# Altium footprint library LPON_OTHER.PcbLib: 107 footprints (part 1 of 7)
Each footprint in its own frame and in the unit in brackets; x right, y up, seen from the top. Pads: shape width x height; smd on the part's side, far side on the other; paste and mask are expansions set on the pad; w line width, h text height; cw(c..) or ccw(c..) is an arc to the next point about the centre after c.
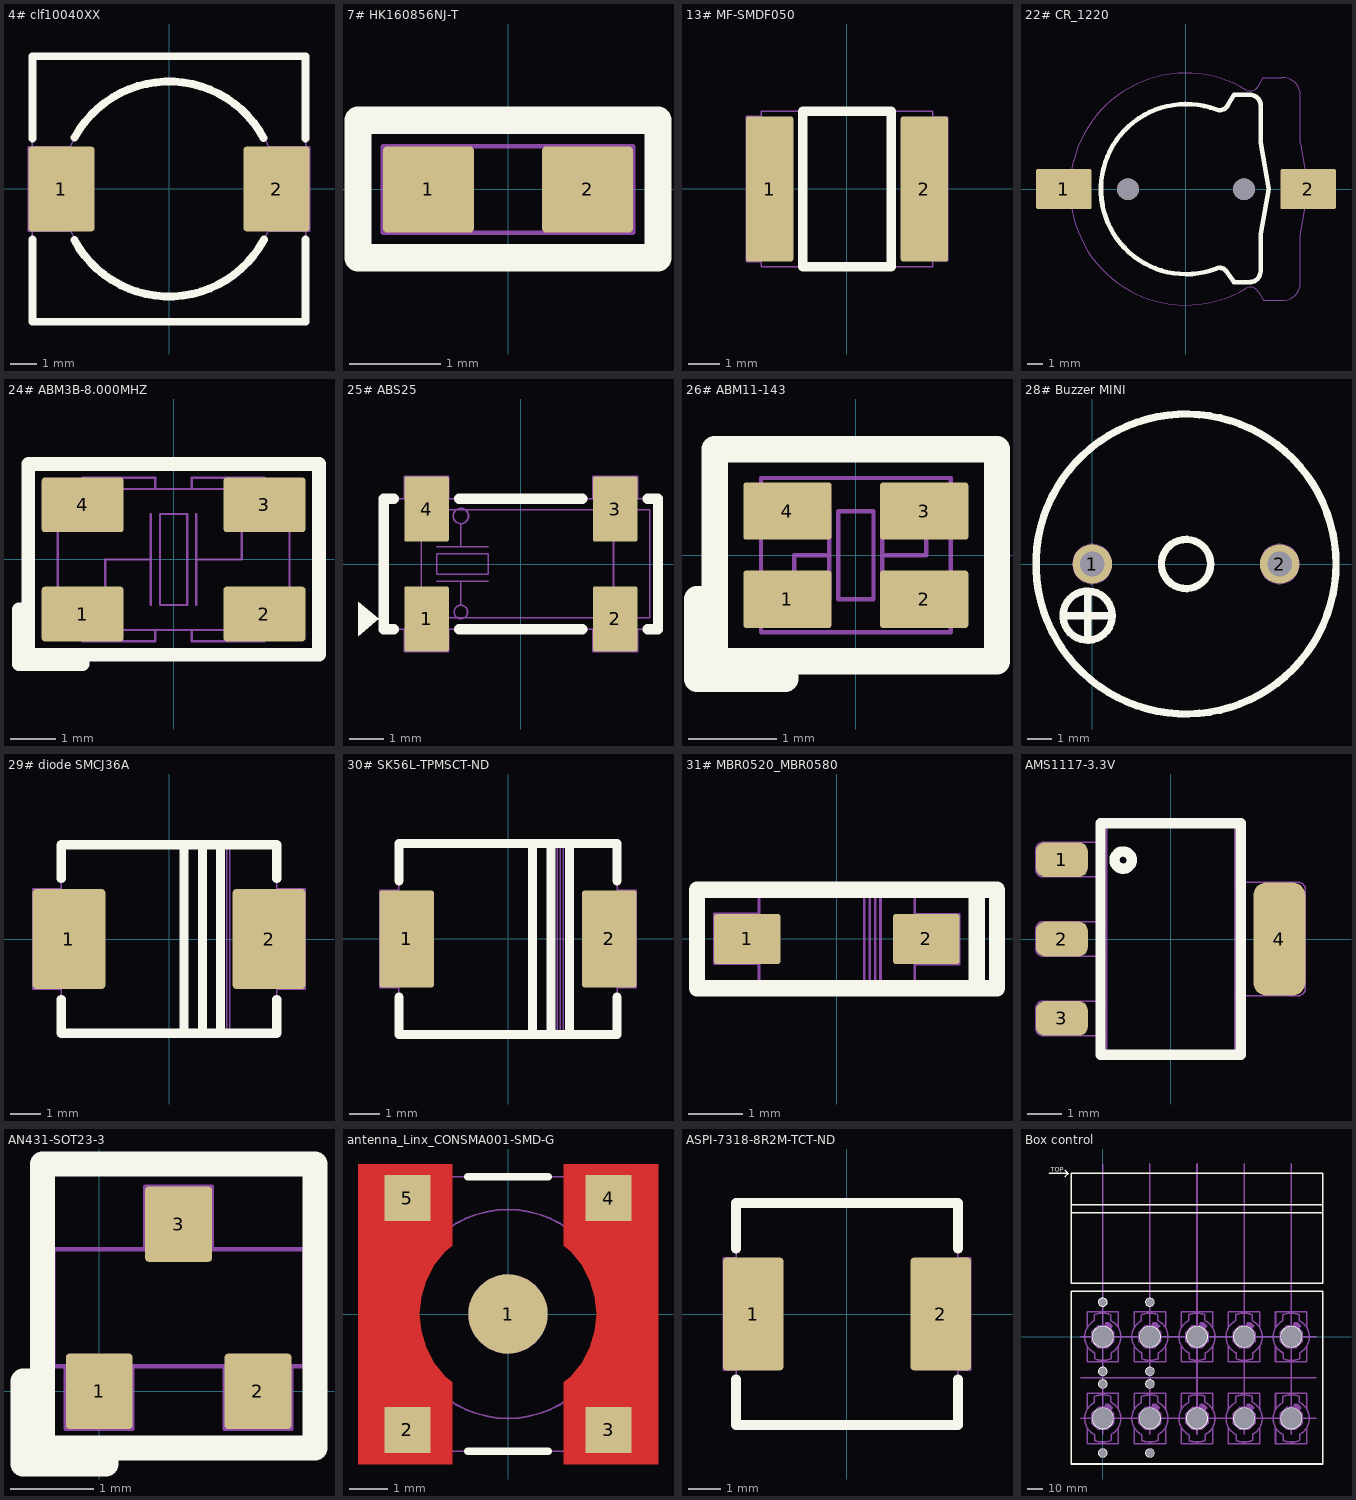
[diagram p0: the footprints below, top view; thin cyan lines are the x and y axes]

## 4# clf10040XX [mm] "Precision Wire Wound Inductor, 2-Leads, Body 10.00x9.70mm, IPC Medium Density"
height 4.1
pads (2):
  rrect10% 2.5x3.2 smd mask+0.1: 1(-4.05,0) 2(4.05,0)
Top Overlay:
  lines w0.3: -5.15,-1.9 -5.15,-5 5.15,-5 5.15,-1.9 ; -5.15,1.9 -5.15,5 5.15,5 5.15,1.9 ; -3.567,-1.917 ccw(c0,0) 3.571,-1.911 ; -3.552,1.946 cw(c0,0) 3.566,1.92
Mechanical 2:
  lines w0.05: -5.15,-1.6 -5.15,-5 5.15,-5 5.15,-1.6 ; -5.15,1.6 -5.15,5 5.15,5 5.15,1.6 ; -3.72,1.6 -5.3,1.6 -5.3,-1.6 -3.717,-1.6 ; 3.717,-1.6 5.3,-1.6 5.3,1.6 3.72,1.6 ; -3.697,-1.577 cw(c0.02,0.03) 3.737,-1.577 cw(c0.02,0.03) -3.697,-1.577
3D body "clf10040.step": height 4.1, standoff -0.1, extent -5,-4.85 5.2,4.85

## 7# HK160856NJ-T [mm] "Chip Inductor, 2-Leads, Body 1.60x0.80mm, IPC Medium Density"
height 0.95
pads (2):
  rrect10% 1x0.95 smd: 1(-0.875,0) 2(0.875,0)
Top Overlay:
  lines w0.3: -1.65,-0.75 1.65,-0.75 1.65,0.76 -1.65,0.76 -1.65,-0.75
Mechanical 2:
  lines w0.05: -0.875,-0.475 -0.875,0.475 ; -0.875,-0.475 -1.375,-0.475 -1.375,0.475 -0.875,0.475 ; -0.875,-0.475 0.875,-0.475 ; -0.875,0.475 0.875,0.475 ; 0.875,-0.475 0.875,0.475 ; 0.875,-0.475 1.375,-0.475 1.375,0.475 0.875,0.475
3D body "HK160856NJ-T.step": height 0.95, standoff 0, extent -0.935,-0.475 0.815,0.475

## 13# MF-SMDF050 [mm] "style1"
height 1.09
pads (2):
  rrect10% 1.5x4.6 smd mask+0.05: 1(-2.45,0) 2(2.45,0)
Top Overlay:
  lines w0.3: -1.397,-2.465 -1.397,2.465 1.397,2.465 1.397,-2.465 -1.397,-2.465
Mechanical 2:
  lines w0.05: 2.72,-2.275 3.187,-2.275 3.187,2.275 ; 2.72,2.275 2.825,2.275 3.059,2.275 3.176,2.275 ; -3.188,-2.3 -3.188,2.3 ; -3.188,-2.3 -2.72,-2.3 -3.188,-2.3 ; -3.188,-2.3 -3.188,2.3 ; -3.188,2.3 -2.72,2.3 -3.188,2.3 ; -2.72,-2.465 2.72,-2.465 2.72,2.465 -2.72,2.465 -2.72,-2.465
3D body "User Library-MF-SMDF050.step": height 1.05, standoff -0.05, extent -2.7,-2.475 2.7,2.425

## 22# CR_1220 [mm] "BS-1220-2 PPS"
height 4.3
pads (2):
  rrect10% 3.6x2.6 smd mask+0.07: 1(-7.9,0) 2(7.9,0)
via 3.75,0 diameter 1.4 hole 1.4
via -3.75,0 diameter 1.4 hole 1.4
Top Overlay:
  lines w0.3: -5.336,1.334 ccw(c0,0) 1.938,-5.147 ; -5.331,1.352 cw(c0,0) 1.92,5.154 ; 1.922,5.158 ccw(c2.17,5.704) 2.716,5.456 ; 1.937,-5.146 cw(c2.176,-5.641) 2.673,-5.406 3.096,-6.014 4.096,-6.014 ccw(c4.123,-5.315) 4.823,-5.342 4.823,-2.911 5.348,0.008 4.83,3 4.83,5.431 ccw(c4.13,5.401) 4.1,6.1 3.1,6.1 2.714,5.457
Mechanical 2:
  lines w0.05: -7.276,1.819 ccw(c0,0) 3.905,-6.403 ; -7.27,1.843 cw(c0,0) 3.903,6.404 ; 3.901,6.4 ccw(c4.15,6.95) 4.7,6.7 5,7.2 6.2,7.2 cw(c6.25,6.05) 7.4,6.1 7.4,3 7.92,0 7.4,-3 7.4,-6.1 cw(c6.255,-6.055) 6.21,-7.2 5.01,-7.2 4.7,-6.686 ccw(c4.159,-6.941) 3.903,-6.4
  text "2" at 5.5,-0.3 h1
  text "1" at -5.6,-0.5 h1
3D body "User Library-cr1220.STEP": height 3.94, standoff -1, extent -9,-7.5 9.5,7.497
3D body "User Library-cr1220.STEP": height 3.94, standoff -1, extent -9.07,-7.49 9.43,7.507

## 24# ABM3B-8.000MHZ [mm] "ABM3B B2-T"
height 1.1
pads (4):
  rrect10% 1.8x1.2 smd mask+0.07: 1(-2,-1.2) 2(2,-1.2) 3(2,1.2) 4(-2,1.2)
Top Overlay:
  lines w0.3: -3.2,-1.1 -3.4,-1.1 -3.4,-2.3 -2,-2.3 -2,-2.1 ; -3.2,-2.1 3.2,-2.1 3.2,2.1 -3.2,2.1 -3.2,-2.1
Mechanical 2:
  lines w0.05: -2,-1.55 -2,-1.8 -0.4,-1.8 -0.4,-1.55 ; -2,1.55 -2,1.8 -0.4,1.8 -0.4,1.55 ; -1.5,-0.7 -1.5,0 -0.5,0 ; -0.5,-1 -0.5,1 ; 0.4,-1.55 0.4,-1.8 2,-1.8 2,-1.55 ; 0.4,1.55 0.4,1.8 2,1.8 2,1.55 ; 0.5,-1 0.5,1 ; 0.5,0 1.5,0 1.5,0.7 ; -2.55,-1.55 -2.55,1.55 2.55,1.55 2.55,-1.55 -2.55,-1.55 ; -0.3,-1 0.3,-1 0.3,1 -0.3,1 -0.3,-1
  text "1" at -1.5,-1.3 h0.5
  text "2" at 1.2,-1.3 h0.5
  text "3" at 1.2,0.9 h0.5
  text "4" at -1.5,0.9 h0.5
3D body "User Library-ABM3B.STEP": height 1.05, standoff -0.05, extent -2.374,-1.595 2.626,1.605

## 25# ABS25 [mm] "#25 ABS25 Crystal SMD 32768"
height 2.5
pads (4):
  rrect10% 1.3x1.9 smd mask+0.1: 1(-2.75,-1.6) 2(2.75,-1.6) 3(2.75,1.6) 4(-2.75,1.6)
Top Overlay:
  region: -4.15,-1.6 -4.75,-1.1 -4.75,-2.1
  lines w0.3: -3.7,-1.9 -4,-1.9 -4,1.9 -3.7,1.9 ; -1.8,-1.9 1.8,-1.9 ; -1.8,1.9 1.8,1.9 ; 3.7,-1.9 4,-1.9 4,1.9 3.7,1.9
Mechanical 2:
  circle w0.05: c-1.75,1.4 r0.224
  circle w0.05: c-1.75,-1.4 r0.196
  circle w0.05: c2.7,-1.4 r0.196
  circle w0.05: c2.7,1.4 r0.224
  lines w0.05: -3.4,-1.9 -3.4,-2.55 -2.1,-2.55 -2.1,-1.9 ; -3.4,1.9 -3.4,2.55 -2.1,2.55 -2.1,1.9 ; -2.45,-0.5 -0.95,-0.5 ; -2.45,0.5 -0.95,0.5 ; -1.75,-1.2 -1.75,-0.5 ; -1.75,0.5 -1.75,1.15 ; 2.1,-1.9 2.1,-2.55 3.4,-2.55 3.4,-1.9 ; 2.1,1.9 2.1,2.55 3.4,2.55 3.4,1.9 ; 2.7,-1.2 2.7,1.15 ; -4,-1.9 -4,1.9 4,1.9 4,-1.9 -4,-1.9 ; -2.908,-1.568 -2.908,1.583 3.741,1.583 3.758,1.583 3.758,-1.568 -2.908,-1.568 ; -2.45,-0.3 -2.45,0.3 -0.95,0.3 -0.95,-0.3 -2.45,-0.3
  text "1" at -2.5,-1.4 h0.8
  text "2" at 1.7,-1.35 h0.8
  text "3" at 1.7,0.655 h0.8
  text "4" at -2.7,0.655 h0.8
3D body "User Library-ABS25.step": height 2.7, standoff -0.01, extent -4.034,-1.88 3.966,2.12

## 26# ABM11-143 [mm] "27.120MHZ-T3,CERAMICS SMD ULTRA MINIATURE  QUARTZ CRYSTAL"
height 0.59
pads (4):
  rrect10% 1x0.65 smd mask+0.1: 1(-0.775,-0.5) 2(0.775,-0.5) 3(0.775,0.5) 4(-0.775,0.5)
Top Overlay:
  lines w0.3: -1.6,-0.5 -1.8,-0.5 -1.8,-1.4 -0.8,-1.4 -0.8,-1.2 ; -1.6,-1.2 1.6,-1.2 1.6,1.2 -1.6,1.2 -1.6,-1.2
Mechanical 2:
  lines w0.05: -0.7,-0.3 -0.7,0 -0.3,0 ; -0.3,-0.5 -0.3,0.5 ; 0.3,-0.5 0.3,0.5 ; 0.3,0 0.8,0 0.8,0.3 ; -1.075,-0.875 1.075,-0.875 1.075,0.875 -1.075,0.875 -1.075,-0.875 ; -0.2,-0.5 -0.2,0.5 0.2,0.5 0.2,-0.5 -0.2,-0.5
  text "4" at -0.9,0.5 h0.3
  text "3" at 0.7,0.5 h0.3
  text "2" at 0.7,-0.8 h0.3
  text "1" at -0.8,-0.8 h0.3
3D body "User Library-ABM11.step": height 0.59, standoff 0, extent -0.999,-0.808 1.001,0.792

## 28# Buzzer MINI [mm] "PB-12N23P-05Q"
height 9.7
pads (2):
  round 1.6 hole 1 mask+0.1: 1(0,0) 2(7.62,0)
Top Overlay:
  circle w0.3: c3.81,0 r1
  circle w0.3: c3.81,0 r6.1
  circle w0.3: c-0.19,-2.1 r1
  lines w0.3: -1.19,-2.1 0.81,-2.1 ; -0.19,-3.1 -0.19,-1.1
Mechanical 2:
  circle w0.05: c3.81,0 r6.1
  circle w0.05: c7.62,0 r0.8
  circle w0.05: c-0.19,-2.1 r1
  circle w0.05: c3.81,0 r1
  circle w0.05: c0,0 r0.8
  lines w0.05: -1.19,-2.1 0.81,-2.1 ; -0.19,-3.1 -0.19,-1.1
  text "2" at 7.32,-0.6 h1.2
  text "1" at -0.2,-0.5 h1.2
3D body "User Library-Buzzer14mm.step": height 7.35, standoff -3.1, extent -3,-7 11,7

## 29# diode SMCJ36A [mm] "DO-214AB (SMC J-Bend)"
height 2.62
pads (2):
  rrect10% 2.4x3.3 smd mask+0.1: 1(-3.3,0) 2(3.3,0)
Top Overlay:
  lines w0.3: -3.555,-2 -3.555,-3.11 3.555,-3.11 3.555,-2 ; -3.555,2 -3.555,3.11 3.555,3.11 3.555,2 ; 0.5,-3.1 0.5,3.11 ; 1.1,-3.1 1.1,3.11 ; 1.7,-3.1 1.7,3.11
Mechanical 2:
  lines w0.05: -3.555,-1.65 -4.5,-1.65 -4.5,1.65 -3.555,1.65 ; 1.8,-3.1 1.8,3.11 ; 1.9,-3.1 1.9,3.11 ; 2,-3.1 2,3.11 ; 3.555,-1.65 4.5,-1.65 4.5,1.65 3.555,1.65 ; -3.555,-3.11 -3.555,3.11 ; -3.555,-3.11 3.555,-3.11 ; -3.555,-3.11 -3.555,3.11 ; -3.555,-3.11 3.555,-3.11 ; -3.555,3.11 3.555,3.11 ; -3.555,3.11 3.555,3.11 ; 3.555,-3.11 3.555,3.11 ; 3.555,-3.11 3.555,3.11 ; 1.7,-3.1 1.7,3.11 1.7,-3.1
  text "K" at 2.4,-0.5 h1.2
  text "A" at -3.2,-0.5 h1.2
3D body "User Library-DO-214AB.step": height 2.93, standoff -0.08, extent -3.975,-3.125 4.175,3.124

## 30# SK56L-TPMSCT-ND [mil] "SK56L-TPMSCT-ND(DO-214AB)"
height 103.15
pads (2):
  rrect10% 70x125 smd: 1(-130,0) 2(130,0)
Top Overlay:
  lines w11.81: -139.96,-74.8 -139.96,-122.44 139.96,-122.44 139.96,-74.8 ; -139.96,74.8 -139.96,122.44 139.96,122.44 139.96,74.8 ; 31.5,122.44 31.5,-122.44 39.37,-122.44 ; 55.12,-122.44 55.12,122.44 ; 78.74,-122.44 78.74,122.44
Mechanical 2:
  lines w1.97: -140.28,62.4 -164.8,62.4 -164.8,-62.24 -140.04,-62.24 ; 59.05,-122.44 59.05,122.44 ; 62.99,-122.44 62.99,122.44 ; 66.93,-122.44 66.93,122.44 ; 70.87,-122.44 70.87,122.44 ; 140.04,62.24 164.8,62.24 164.8,-62.4 140.28,-62.4 ; -139.96,-122.44 139.96,-122.44 139.96,122.44 -139.96,122.44 -139.96,-122.44
  text "A" at -122.05,-27.56 h47.24
  text "K" at 98.43,-27.56 h47.24
3D body "User Library-DO-214AB SMC.step": height 86.71, standoff -3.94, extent -156.49,-116.14 156.5,116.14

## 31# MBR0520_MBR0580 [mil] "SOD123"
pads (2):
  rrect10% 48x35.98 smd: 1(-64.49,0) 2(64.49,0)
Top Overlay:
  lines w11.81: 100.79,-35.43 -100.79,-35.43 -100.79,35.43 100.79,35.43 ; 100.79,-35.43 100.79,35.43 ; 100.79,-35.43 115.35,-35.43 115.35,35.43 100.79,35.43
Mechanical 2:
  lines w1.97: -56.3,-17.72 -88.19,-17.72 -88.19,18.11 -56.3,18.11 ; 19.68,-35.43 19.68,35.43 ; 23.62,-35.43 23.62,35.43 ; 27.56,-35.43 27.56,35.43 31.5,35.43 31.5,-35.43 ; 56.3,-18.11 88.19,-18.11 88.19,17.72 56.3,17.72 ; -56.1,-35.43 -56.1,35.43 56.1,35.43 56.1,-35.43 -56.1,-35.43
  text "K" at 39.37,-15.75 h31.5
  text "A" at -51.18,-15.75 h31.5
3D body "CircuitWorks-SOD123.step": height 50, standoff 0, extent -72.83,-31.49 72.84,31.5
3D body "SOD123.STEP": height 50, standoff 0, extent -72.83,-31.49 72.84,31.5

## AMS1117-3.3V [mm] "SOT223, 4-Leads, Body 6.7x7.3mm (max), Pitch 2.30mm, IPC Medium Density"
height 1.8
pads (4):
  rrect50% 1.5x1 smd: 1(-3.15,2.3) 2(-3.15,0) 3(-3.15,-2.3)
  rrect50% 1.5x3.28 smd: 4(3.15,0)
Top Overlay:
  circle w0.3: c-1.375,2.286 r0.25
  lines w0.3: -2.032,-3.355 2.032,-3.355 2.032,3.355 -2.032,3.355 -2.032,-3.355
Mechanical 1:
  lines w0.05: -1.89,1.8 -3.7,1.8 cw(c-3.7,2) -3.9,2 -3.9,2.6 cw(c-3.7,2.6) -3.7,2.8 -1.89,2.8 ; -1.855,-2.8 -3.7,-2.8 cw(c-3.7,-2.6) -3.9,-2.6 -3.9,-2 cw(c-3.7,-2) -3.7,-1.8 -1.855,-1.8 ; -1.855,-0.5 -3.7,-0.5 cw(c-3.7,-0.3) -3.9,-0.3 -3.9,0.3 cw(c-3.7,0.3) -3.7,0.5 -1.855,0.5 ; 1.855,-1.64 3.7,-1.64 ccw(c3.7,-1.44) 3.9,-1.44 3.9,1.44 ccw(c3.7,1.44) 3.7,1.64 1.855,1.64 ; -1.855,-3.355 -1.855,3.355 1.855,3.355 1.855,-3.355 -1.855,-3.355
  text "1" at -1.575,2.52 h1.2
  text "2" at -1.575,0.315 h1.2
  text "3" at -1.575,-1.89 h1.2

## AN431-SOT23-3 [mm] "IC VREF SHUNT ADJ SOT23-3"
height 1.2
pads (3):
  rrect10% 0.8x0.9 smd mask+0.05: 1(0,0) 2(1.9,0) 3(0.95,2)
Top Overlay:
  lines w0.3: -0.71,0.14 -0.71,0.12 -0.91,0.12 -0.91,-0.87 0.06,-0.87 0.08,-0.87 0.08,-0.71 ; -0.68,-0.68 -0.68,2.72 2.58,2.72 2.58,-0.68 -0.68,-0.68
Mechanical 1:
  lines w0.05: 0.55,1.7 0.55,2.45 1.35,2.45 1.35,1.7 ; 1.5,0.3 1.5,-0.45 2.3,-0.45 2.3,0.3 ; -0.55,0.3 -0.55,1.7 2.45,1.7 2.45,0.3 -0.55,0.3 ; -0.4,-0.45 -0.4,0.3 0.4,0.3 0.4,-0.45 -0.4,-0.45
  text "A" at 0.84,1.25 h0.3
  text "REF" at 1.51,0.41 h0.3
  text "K" at -0.05,0.39 h0.3
3D body "CircuitWorks-SOT-23.step": height 1.05, standoff -0.05, extent -0.54,-0.29 2.46,2.21

## antenna_Linx_CONSMA001-SMD-G [mm] "SMD, 5-Leads, Body 7x7mm, Height 10.5mm"
height 10.5
pads (5):
  round 2.05 smd: 1(0,0)
  rect 1.2x1.2 smd: 2(-2.6,-3) 3(2.6,-3) 4(2.6,3) 5(-2.6,3)
Top Layer:
  region: 3.88,-3.88 1.44,-3.88 1.44,-1.761 1.448,-1.761 1.62,-1.62 1.905,-1.273 2.117,-0.877 2.247,-0.447 2.291,0 2.247,0.447 2.117,0.877 1.905,1.273 1.62,1.62 1.448,1.761 1.44,1.761 1.44,3.88 3.88,3.88
  region: -3.88,-3.88 -1.44,-3.88 -1.44,-1.761 -1.448,-1.761 -1.62,-1.62 -1.905,-1.273 -2.117,-0.877 -2.247,-0.447 -2.291,0 -2.247,0.447 -2.117,0.877 -1.905,1.273 -1.62,1.62 -1.448,1.761 -1.44,1.761 -1.44,3.88 -3.88,3.88
Top Overlay:
  lines w0.2: -1.04,-3.55 1.04,-3.55 ; -1.04,3.55 1.04,3.55
Mechanical 1:
  circle w0.05: c0,0 r2.7
  circle w0.05: c0,0 r1
  lines w0.05: -1.5,-3.55 -1.5,-2.26 ; -1.5,2.24 -1.5,3.54 ; 1.5,-3.55 1.5,-2.26 ; 1.5,2.24 1.5,3.55 ; -3.55,-3.55 3.55,-3.55 3.55,3.55 -3.55,3.55 -3.55,-3.55
  text "J?" at 0,0 h1
3D body: height 9.5, standoff 6, extent -2.699,-2.699 2.699,2.699
3D body: height 9, standoff 0.99, extent -2.299,-2.299 2.299,2.299
3D body: height 10.5, standoff 2.5, extent -2.544,-2.544 2.544,2.544
3D body: height 1, standoff 0, extent -0.634,-0.634 0.634,0.634
3D body: height 1, standoff 0, extent 2.05,2.05 3.55,3.55
3D body: height 1, standoff 0, extent -3.55,2.05 -2.05,3.55
3D body: height 1, standoff 0, extent -3.55,-3.55 -2.05,-2.05
3D body: height 1, standoff 0, extent 2.05,-3.55 3.55,-2.05
3D body: height 2.5, standoff 1, extent -3.55,-3.55 3.55,3.55

## ASPI-7318-8R2M-TCT-ND [mm] "8.2µH Shielded Wirewound Inductor 4A 68 mOhm Max Nonstandard"
height 3
pads (2):
  rrect10% 1.85x3.45 smd: 1(-2.875,0) 2(2.875,0)
Top Overlay:
  lines w0.3: -3.4,-2 -3.4,-3.4 3.4,-3.4 3.4,-2 ; -3.4,2 -3.4,3.4 3.4,3.4 3.4,2
Mechanical 2:
  lines w0.05: -3.404,1.723 -3.41,1.723 -3.796,1.723 -3.796,-1.727 -3.402,-1.727 -3.402,-1.723 ; 3.402,-1.723 3.402,-1.727 3.794,-1.727 3.794,1.723 3.41,1.723 3.404,1.723 ; -3.4,-3.4 3.4,-3.4 3.4,3.4 -3.4,3.4 -3.4,-3.4
3D body: height 0.5, standoff 0, extent 2.467,-1.26 3.653,1.272
3D body: height 0.5, standoff 0, extent -3.654,-1.273 -2.468,1.26
3D body: height 3, standoff 0, extent -3.4,-3.4 3.4,3.4
3D body: height 2.54, standoff 0, extent -3.402,-3.4 3.402,3.4

## Box control [mm] "Box control with 3 state switch"
height 100
pads (19):
  round 0 hole 13 mask+0.1: 1(0,0) 2(30,0) 3(60,0) 4(90,0) 5(120,0) 6(0,-52) 7(30,-52) 8(60,-52) 9(90,-52) 10(120,-52) 10(120,-52)
  round 0 hole 5 mask+0.1: 11(0,22) 12(30,22) 13(0,-22) 14(30,-22) 15(0,-30) 16(30,-30) 17(0,-74) 18(30,-74)
Top Overlay:
  circle w1: c0,-52 r6.5
  circle w1: c30,-52 r6.5
  circle w1: c60,-52 r6.5
  circle w1: c90,-52 r6.5
  circle w1: c120,-52 r6.5
  circle w1: c0,-30 r2.5
  circle w1: c30,-30 r2.5
  circle w1: c0,-74 r2.5
  circle w1: c30,-74 r2.5
  circle w1: c30,-22 r2.5
  circle w1: c0,-22 r2.5
  circle w1: c30,22 r2.5
  circle w1: c0,22 r2.5
  circle w1: c120,0 r6.5
  circle w1: c90,0 r6.5
  circle w1: c60,0 r6.5
  circle w1: c30,0 r6.5
  circle w1: c0,0 r6.5
  lines w1: -34,104 -22,104 ; -24,102 -22,104 ; -24,106 -22,104 ; -20,79 140,79 ; -20,84 140,84 ; 140,104 140,34 -20,34 -20,104 140,104 ; 140,104 140,104 ; -20,-81 -20,29 140,29 140,-81 -20,-81
  text "TOP" at -33,105 h3
Mechanical 1:
  drawing of 350 lines, arcs and shapes, not listed
  text "ON" at 117.5,-41.5 h3
  text "ON" at 117.5,-65.5 h3
  text "ON" at 57.5,-41.5 h3
  text "ON" at 57.5,-65.5 h3
  text "ON" at 87.5,-65.5 h3
  text "ON" at 87.5,-41.5 h3
  text "ON" at 27.5,-41.5 h3
  text "ON" at 27.5,-65.5 h3
  text "ON" at -2.5,-65.5 h3
  text "ON" at -2.5,-41.5 h3
  text "ON" at -2.5,10.5 h3
  text "ON" at -2.5,-13.5 h3
  text "ON" at 27.5,-13.5 h3
  text "ON" at 27.5,10.5 h3
  text "ON" at 87.5,10.5 h3
  text "ON" at 87.5,-13.5 h3
  text "ON" at 57.5,-13.5 h3
  text "ON" at 57.5,10.5 h3
  text "ON" at 117.5,-13.5 h3
  text "ON" at 117.5,10.5 h3
Mechanical 13:
  lines w1: -14,-52 136,-52 ; -14,-26 136,-26 ; -14,0 136,0 ; 0,-62 0,110 ; 30,-62 30,110 ; 60,-62 60,110 ; 90,-62 90,110 ; 120,-62 120,110